# EAGLE library part ENC28J60_SS (library APU_ENGR480_UPS_EAGLE_Library)
Ethernet ICs 8 KB RAM MAC&PHY Ethernet Controller Source: Datasheet <http://docs-emea.rs-online.com/webdocs/0cee/0900766b80ceeb3f.pdf>
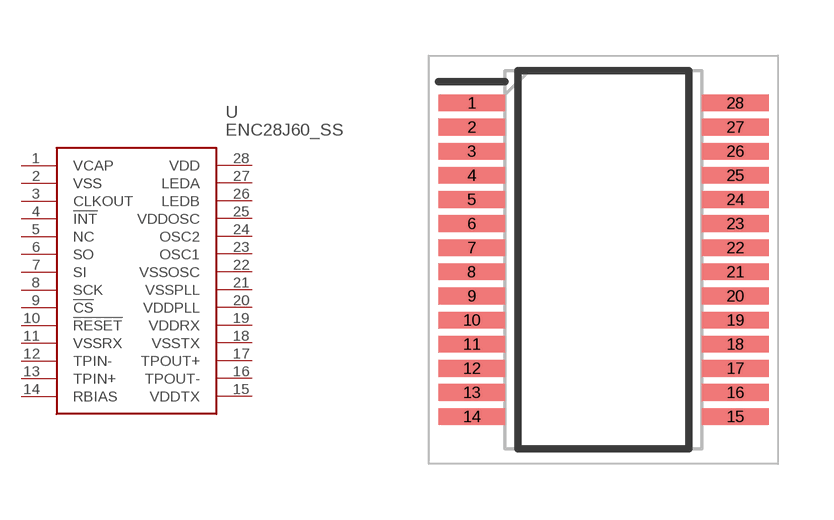
[diagram p4: symbol with the pads of SOP65P780X200-28N; footprint SOP65P780X200-28N]

Designator prefix U

## ENC28J60_SS (ALLIED_NUMBER: 70046819; ALLIED_PRICE-STOCK: http://www.alliedelec.com/microchip-technology-inc-enc28j60-ss/70046819/; DESCRIPTION: Ethernet ICs 8 KB RAM MAC&PHY Ethernet Controller; HEIGHT: 2mm; MANUFACTURER_NAME: Microchip; MANUFACTURER_PART_NUMBER: ENC28J60/SS; MOUSER_PART_NUMBER: 579-ENC28J60/SS; MOUSER_PRICE-STOCK: https://www.mouser.com/Search/Refine.aspx?Keyword=579-ENC28J60%2FSS; RS_PART_NUMBER: 6665713P; RS_PRICE-STOCK: http://uk.rs-online.com/web/p/products/6665713P)  [SOP65P780X200-28N]
1  VCAP
2  VSS  pwr
3  CLKOUT  out
4  !INT  in
5  NC  nc
6  SO
7  SI
8  SCK
9  !CS  in
10  !RESET
11  VSSRX  pwr
12  TPIN-  in
13  TPIN+  in
14  RBIAS
15  VDDTX  pwr
16  TPOUT-  out
17  TPOUT+  out
18  VSSTX  pwr
19  VDDRX  pwr
20  VDDPLL  pwr
21  VSSPLL  pwr
22  VSSOSC  pwr
23  OSC1
24  OSC2
25  VDDOSC  pwr
26  LEDB
27  LEDA
28  VDD  pwr

## Footprint SOP65P780X200-28N (pad centres in mm)
(SS)28-Lead(SSOP)
smd 1.8 x 0.45: 1 -3.55,4.225; 2 -3.55,3.575; 3 -3.55,2.925; 4 -3.55,2.275; 5 -3.55,1.625; 6 -3.55,0.975; 7 -3.55,0.325; 8 -3.55,-0.325; 9 -3.55,-0.975; 10 -3.55,-1.625; 11 -3.55,-2.275; 12 -3.55,-2.925; 13 -3.55,-3.575; 14 -3.55,-4.225; 15 3.55,-4.225; 16 3.55,-3.575; 17 3.55,-2.925; 18 3.55,-2.275; 19 3.55,-1.625; 20 3.55,-0.975; 21 3.55,-0.325; 22 3.55,0.325; 23 3.55,0.975; 24 3.55,1.625; 25 3.55,2.275; 26 3.55,2.925; 27 3.55,3.575; 28 3.55,4.225